# Altium schematic symbol library VL53L0X.SchLib: 1 symbol
Pins are listed as number, name and electrical type; pins without a type are passive.

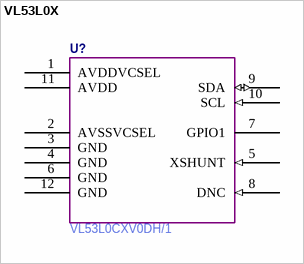
[diagram p0: symbol VL53L0X]

## VL53L0X
designator U?  Manufacturer Part Number: VL53L0CXV0DH/1  (hidden comment: *)
pins: 1 AVDDVCSEL (power), 2 AVSSVCSEL (power), 3 GND (power), 4 GND (power), 5 XSHUNT (in), 6 GND (power), 7 GPIO1 (oc), 8 DNC (in), 9 SDA (io), 10 SCL (in), 11 AVDD (power), 12 GND (power)